# Altium schematic symbol library 5019.SchLib: 1 symbol
Pins are listed as number, name and electrical type; pins without a type are passive.

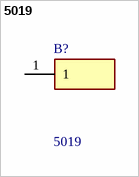
[diagram p0: symbol 5019]

## 5019
designator B?
Circuit Board Hardware - PCB TEST POINT; Manufacturer_Name: Keystone Electronics; Geometry.Height: 2.42mm; Mouser Part Number: 534-5019; Mouser Price/Stock: https://www.mouser.co.uk/ProductDetail/Keystone-Electronics/5019?qs=wOxb8XianXjjCAsb90Ilzw%3D%3D; Manufacturer_Part_Number: 5019; Datasheet Link: https://www.keyelco.com/product-pdf.cfm?p=1357
footprint 5019
pins: 1